# Altium footprint library VESC_BMS.PcbLib: 78 footprints (part 2 of 5)
Each footprint in its own frame and in the unit in brackets; x right, y up, seen from the top. Pads: shape width x height; smd on the part's side, far side on the other; paste and mask are expansions set on the pad; w line width, h text height; cw(c..) or ccw(c..) is an arc to the next point about the centre after c.
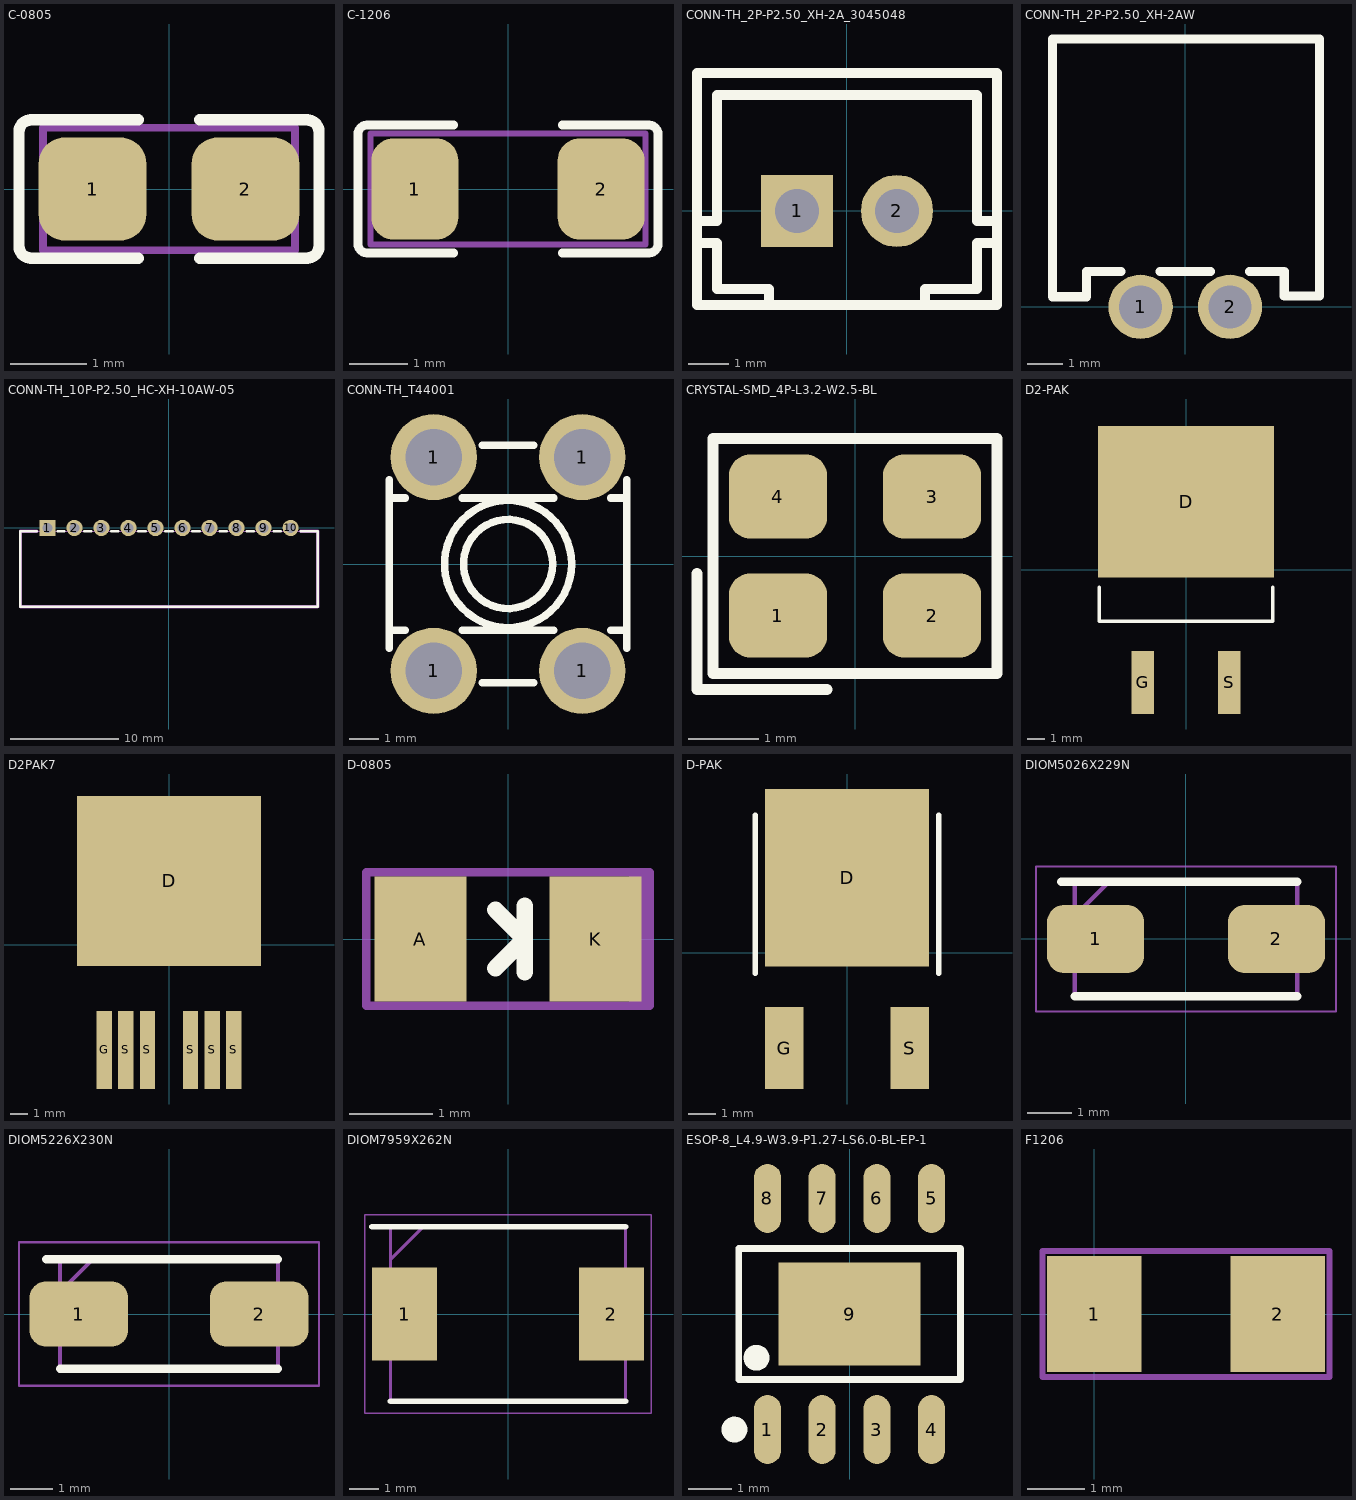
[diagram p1: the footprints below, top view; thin cyan lines are the x and y axes]

## C-0805 [mil]
height 43.31
pads (2):
  rrect50% 55.5x53.1 smd: 1(-39.4,0) 2(39.4,0)
Top Overlay:
  lines w5.9: -15.8,-35.6 -71.3,-35.6 cw(c-71.28,-29.58) -77.3,-29.6 -77.3,29.6 cw(c-71.28,29.58) -71.3,35.6 -15.8,35.6 ; 15.8,-35.6 71.3,-35.6 ccw(c71.28,-29.58) 77.3,-29.6 77.3,29.6 ccw(c71.28,29.58) 71.3,35.6 15.8,35.6
Mechanical 29:
  lines w3.94: -64.96,-31.5 -64.96,31.5 64.96,31.5 64.96,-31.5 -64.96,-31.5
  text ".Designator" at -66.93,-21.65 h39.37
3D body: height 22.05, standoff 21.65, extent -15.75,-23.62 18.5,23.62
3D body: height 23.62, standoff 0, extent 24.02,-25.2 39.76,25.2
3D body: height 23.62, standoff 0, extent -39.76,-25.2 -24.02,25.2
3D body: height 21.65, standoff 1.97, extent -39.37,-24.8 39.37,24.8

## C-1206 [mil]
pads (2):
  rrect50% 58.5x68 smd: 1(-62.7,0) 2(62.6,0)
Top Overlay:
  lines w5.9: -36.5,-43 -94.9,-43 cw(c-94.9,-37) -100.9,-37 -100.9,37 cw(c-94.9,37) -94.9,43 -36.5,43 ; 36.5,-43 94.9,-43 ccw(c94.9,-37) 100.9,-37 100.9,37 ccw(c94.9,37) 94.9,43 36.5,43
Mechanical 29:
  lines w3.94: -92.52,-37.4 92.52,-37.4 92.52,37.4 -92.52,37.4 -92.52,-37.4
  text ".Designator" at -92.52,-25.59 h47.24
3D body: height 17.72, standoff 0, extent 49.21,-31.89 63.39,31.89
3D body: height 16.14, standoff 15.75, extent -11.02,-14.96 11.02,14.96
3D body: height 17.72, standoff 0, extent -63.39,-31.89 -49.21,31.89
3D body: height 15.75, standoff 1.97, extent -62.99,-31.5 62.99,31.5

## CONN-TH_2P-P2.50_XH-2A_3045048 [mm]
pads (2):
  rect 1.8x1.8 hole 1.1 paste-2539.97 mask+0.05: 1(-1.25,0)
  round 1.8 hole 1.1 paste-2539.97 mask+0.05: 2(1.25,0)
Top Overlay:
  lines w0.254: -3.75,-0.249 -3.25,-0.249 -3.25,2.9 3.25,2.9 3.25,-0.25 3.75,-0.25 ; -3.749,-0.798 -3.249,-0.798 -3.249,-1.951 -2.751,-1.951 -1.951,-1.951 -1.951,-2.349 -2.751,-2.349 ; 2.75,-2.35 1.95,-2.35 1.95,-1.951 2.75,-1.951 3.248,-1.951 3.248,-0.798 3.749,-0.798 ; -3.75,-2.35 -3.75,3.45 3.75,3.45 3.75,-2.35 -3.75,-2.35

## CONN-TH_2P-P2.50_XH-2AW [mm]
pads (2):
  round 1.8 hole 1.199: 1(-1.251,0) 2(1.251,0)
Top Overlay:
  lines w0.254: -3.715,0.283 -2.767,0.283 -2.767,0.991 -1.794,0.991 ; -3.715,0.333 -3.715,7.496 3.753,7.496 3.753,0.333 ; -0.708,0.991 0.708,0.991 ; 1.794,0.991 2.769,0.991 2.769,0.305 3.753,0.305
3D body "XH2.54-2P_H.step": height 5.7, standoff -3.4, extent -3.769,-0.3 3.77,7.4

## CONN-TH_10P-P2.50_HC-XH-10AW-05 [mm]
pads (10):
  rect 1.5x1.5 hole 0.9 paste-2539.97 mask+0.05: 1(-11.25,0)
  round 1.5 hole 0.9 paste-2539.97 mask+0.05: 2(-8.75,0) 3(-6.25,0) 4(-3.75,0) 5(-1.25,0) 6(1.25,0) 7(3.75,0) 8(6.25,0) 9(8.75,0) 10(11.25,0)
Top Overlay:
  lines w0.254: -12.25,-0.3 -12.231,-0.3 -13.75,-0.3 -13.75,-7.3 13.75,-7.3 13.75,-0.3 12.184,-0.3 ; -10.269,-0.3 -9.684,-0.3 ; -7.816,-0.3 -7.184,-0.3 ; -5.316,-0.3 -4.684,-0.3 ; -2.816,-0.3 -2.184,-0.3 ; -0.316,-0.3 0.316,-0.3 ; 2.184,-0.3 2.816,-0.3 ; 4.684,-0.3 5.316,-0.3 ; 7.184,-0.3 7.816,-0.3 ; 9.684,-0.3 10.316,-0.3
Mechanical 6:
  region: -12.231,-0.427 -13.623,-0.427 -13.623,-7.173 13.623,-7.173 13.623,-0.427 12.184,-0.427 12.131,-0.427 12.057,-0.353 12.057,-0.247 12.131,-0.173 12.184,-0.173 13.75,-0.173 13.775,-0.173 13.822,-0.192 13.858,-0.228 13.877,-0.275 13.877,-0.3 13.877,-7.3 13.877,-7.325 13.858,-7.372 13.822,-7.408 13.775,-7.427 13.75,-7.427 -13.75,-7.427 -13.775,-7.427 -13.822,-7.408 -13.858,-7.372 -13.877,-7.325 -13.877,-7.3 -13.877,-0.3 -13.877,-0.275 -13.858,-0.228 -13.822,-0.192 -13.775,-0.173 -13.75,-0.173 -12.231,-0.173 -12.179,-0.173 -12.104,-0.247 -12.104,-0.353 -12.179,-0.427 -12.231,-0.427
Mechanical 15:
  region: -13.69,-7.32 -13.69,-7.295 -13.725,-7.26 -13.775,-7.26 -13.81,-7.295 -13.81,-7.32 -13.81,-7.345 -13.775,-7.38 -13.725,-7.38 -13.69,-7.345 -13.69,-7.32
  region: 5.93,0.319 6.57,0.319 6.57,-0.321 5.93,-0.321
  region: 3.43,0.319 4.07,0.319 4.07,-0.321 3.43,-0.321
  region: 0.93,0.319 1.57,0.319 1.57,-0.321 0.93,-0.321
  region: -1.57,0.319 -0.93,0.319 -0.93,-0.321 -1.57,-0.321
  region: -4.07,0.319 -3.43,0.319 -3.43,-0.321 -4.07,-0.321
  region: -6.57,0.319 -5.93,0.319 -5.93,-0.321 -6.57,-0.321
  region: -9.07,0.319 -8.43,0.319 -8.43,-0.321 -9.07,-0.321
  region: -11.57,0.319 -10.93,0.319 -10.93,-0.321 -11.57,-0.321
  region: 8.43,0.319 9.07,0.319 9.07,-0.321 8.43,-0.321
  region: 10.93,0.319 11.57,0.319 11.57,-0.321 10.93,-0.321
  lines w0.051: -13.75,-7.32 -13.75,-0.32 13.75,-0.32 13.75,-7.32 -13.75,-7.32

## CONN-TH_T44001 [mm]
pads (4):
  round 2.9 hole 1.9: 1(-2.5,-3.6) 1(-2.5,3.6) 1(2.5,-3.6) 1(2.5,3.6)
Top Overlay:
  circle w0.254: c0,0 r1.5
  circle w0.254: c0,0 r2.14
  lines w0.254: -4,-2.844 -4,2.844 ; -4,-2.223 -3.463,-2.223 ; -4,2.222 -3.461,2.222 ; -1.539,2.222 1.539,2.222 ; -1.537,-2.223 1.537,-2.223 ; -0.867,-4 0.867,-4 ; -0.867,4 0.867,4 ; 3.461,2.222 4,2.222 ; 3.463,-2.223 4,-2.223 ; 4,-2.844 4,2.844
3D body "AMT0440007DB0000G.stp": height 6.74, standoff -2.95, extent -4,-4 4,4

## CRYSTAL-SMD_4P-L3.2-W2.5-BL [mm]
pads (4):
  rrect50% 1.4x1.2 smd: 1(-1.1,-0.85) 2(1.1,-0.85) 3(1.1,0.85) 4(-1.1,0.85)
Top Overlay:
  lines w0.152: -2.257,-0.25 -2.257,-1.907 -0.4,-1.907 ; -2.029,-1.678 2.029,-1.678 2.029,1.679 -2.029,1.679 -2.029,-1.678
3D body "ABM8AIG-8.000MHZ-1Z-T.stp": height 0.8, standoff 0, extent -1.6,-1.25 1.6,1.25

## D2-PAK [mm]
pads (3):
  rect 10.3x8.9 smd paste-5: D(0,4)
  rect 1.3x3.7 smd: G(-2.54,-6.6) S(2.54,-6.6)
Top Overlay:
  lines w0.2: -5.1,-1 -5.1,-3 5.1,-3 5.1,-1
Top Paste:
  rectangle: -4.25,0.5 4.25,7.5
3D body "User Library-DPAK.step": height 4.88, standoff -0.13, extent -5.08,-7.816 5.08,7.448

## D2PAK7 [mm]
pads (7):
  rect 10.8x10 smd paste-5: D(0,3.775)
  rect 0.9x4.6 smd: G(-3.81,-6.175) S(-2.537,-6.175) S(-1.27,-6.175) S(1.27,-6.175) S(2.54,-6.175) S(3.81,-6.175)
Top Paste:
  rectangle: -5.3,-1.2 -0.3,8.7
  region: 5.3,8.7 0.3,8.7 0.3,-1.2 5.3,-1.2
3D body "SW3dPS-TO263-7S.STEP": height 4.81, standoff 0.01, extent -5,-7.8 5,7.87

## D-0805 [mm]
pads (2):
  rect 1.1x1.5 smd: A(-1.05,0) K(1.05,0)
Top Overlay:
  lines w0.2: -0.15,-0.35 0.2,0 -0.15,0.35 ; 0.2,-0.4 0.2,0.4
Mechanical 29:
  lines w0.1: 1.5,-0.8 1.5,0.8 ; 1.6,-0.8 1.6,0.8 ; -1.7,-0.8 1.7,-0.8 1.7,0.8 -1.7,0.8 -1.7,-0.8
  text ".Designator" at -1.5,-0.4 h0.8
3D body: height 0.55, standoff 0.05, extent -1,-0.63 1,0.63
3D body: height 0.6, standoff 0, extent -1.01,-0.64 -0.61,0.64
3D body: height 0.6, standoff 0, extent 0.61,-0.64 1.01,0.64

## D-PAK [mm]
pads (3):
  rect 6x6.5 smd paste-5: D(0,2.75)
  rect 1.4x3 smd: G(-2.3,-3.5) S(2.3,-3.5)
Top Overlay:
  lines w0.2: -3.365,-0.76 -3.365,5.04 ; 3.365,-0.76 3.365,5.04
Top Paste:
  rectangle: -2.2,0.3 2.175,5.3
3D body "TO_252.stp": height 2.47, standoff -0.01, extent -3.29,-4.25 3.29,5.449

## DIOM5026X229N [mm]
pads (2):
  rrect50% 2.2x1.55 smd: 1(-2.05,0) 2(2.05,0)
Top Overlay:
  lines w0.2: -2.825,1.298 2.52,1.298 ; -2.52,-1.298 2.52,-1.298
Mechanical 13:
  lines w0.1: -2.52,0.522 -1.745,1.298 ; -2.52,-1.298 2.52,-1.298 2.52,1.298 -2.52,1.298 -2.52,-1.298
Mechanical 15:
  lines w0.05: -3.4,-1.645 3.4,-1.645 3.4,1.645 -3.4,1.645 -3.4,-1.645
3D body "SMAJ7.0A.stp": height 2.29, standoff 0, extent -2.52,-1.298 2.52,1.298

## DIOM5226X230N [mm]
pads (2):
  rrect50% 2.35x1.55 smd: 1(-2.15,0) 2(2.15,0)
Top Overlay:
  lines w0.2: -2.925,1.302 2.598,1.302 ; -2.598,-1.302 2.598,-1.302
Mechanical 13:
  lines w0.1: -2.598,0.528 -1.822,1.302 ; -2.598,-1.302 -2.598,1.302 2.598,1.302 2.598,-1.302 -2.598,-1.302
Mechanical 15:
  lines w0.05: -3.575,-1.71 -3.575,1.71 3.575,1.71 3.575,-1.71 -3.575,-1.71
3D body "ES2BA-13-F.stp": height 2.3, standoff 0, extent -2.598,-1.302 2.598,1.302

## DIOM7959X262N [mm]
pads (2):
  rect 2.2x3.15 smd: 1(-3.5,0) 2(3.5,0)
Top Overlay:
  lines w0.2: -4.6,2.952 3.97,2.952 ; -3.97,-2.952 3.97,-2.952
Mechanical 13:
  lines w0.1: -3.97,1.852 -2.87,2.952 ; -3.97,-2.952 3.97,-2.952 3.97,2.952 -3.97,2.952 -3.97,-2.952
Mechanical 15:
  lines w0.05: -4.85,-3.36 4.85,-3.36 4.85,3.36 -4.85,3.36 -4.85,-3.36
3D body "SMCJ75A.stp": height 2.31, standoff 0, extent -3.97,-2.953 3.97,2.953

## ESOP-8_L4.9-W3.9-P1.27-LS6.0-BL-EP-1 [mm]
pads (9):
  oval 0.63x1.6 smd: 1(-1.905,-2.682) 2(-0.635,-2.682) 3(0.635,-2.682) 4(1.905,-2.682) 5(1.905,2.682) 6(0.635,2.682) 7(-0.635,2.682) 8(-1.905,2.682)
  rect 3.3x2.4 smd paste+0 mask+0.05: 9(0,0)
Top Overlay:
  circle w0.3: c-2.159,-1.016 r0.15
  circle w0.3: c-2.672,-2.682 r0.15
  lines w0.152: -2.576,-1.521 2.576,-1.521 2.576,1.521 -2.576,1.521 -2.576,-1.521
3D body "9z2C-U2-ESOP-8_L4.9-W3.9-P1.27-LS6.0-BL-EP-1.step": height 1.5, standoff 0, extent -2.45,-3 2.45,3

## F1206 [mm]
pads (2):
  rect 1.65x2.03 smd: 1(0,0) 2(3.2,0)
Mechanical 29:
  lines w0.1: -0.9,-1.1 4.1,-1.1 4.1,1.1 -0.9,1.1 -0.9,-1.1
  text ".Designator" at -0.6,-0.4 h0.8
3D body: height 0.6, standoff 0, extent 0,-0.8 3.2,0.8
3D body: height 0.61, standoff 0.6, extent 1.35,-0.34 1.85,0.35